# Altium footprint library PcbLib_Left.PcbLib: 25 footprints (part 1 of 2)
Each footprint in its own frame and in the unit in brackets; x right, y up, seen from the top. Pads: shape width x height; smd on the part's side, far side on the other; paste and mask are expansions set on the pad; w line width, h text height; cw(c..) or ccw(c..) is an arc to the next point about the centre after c.
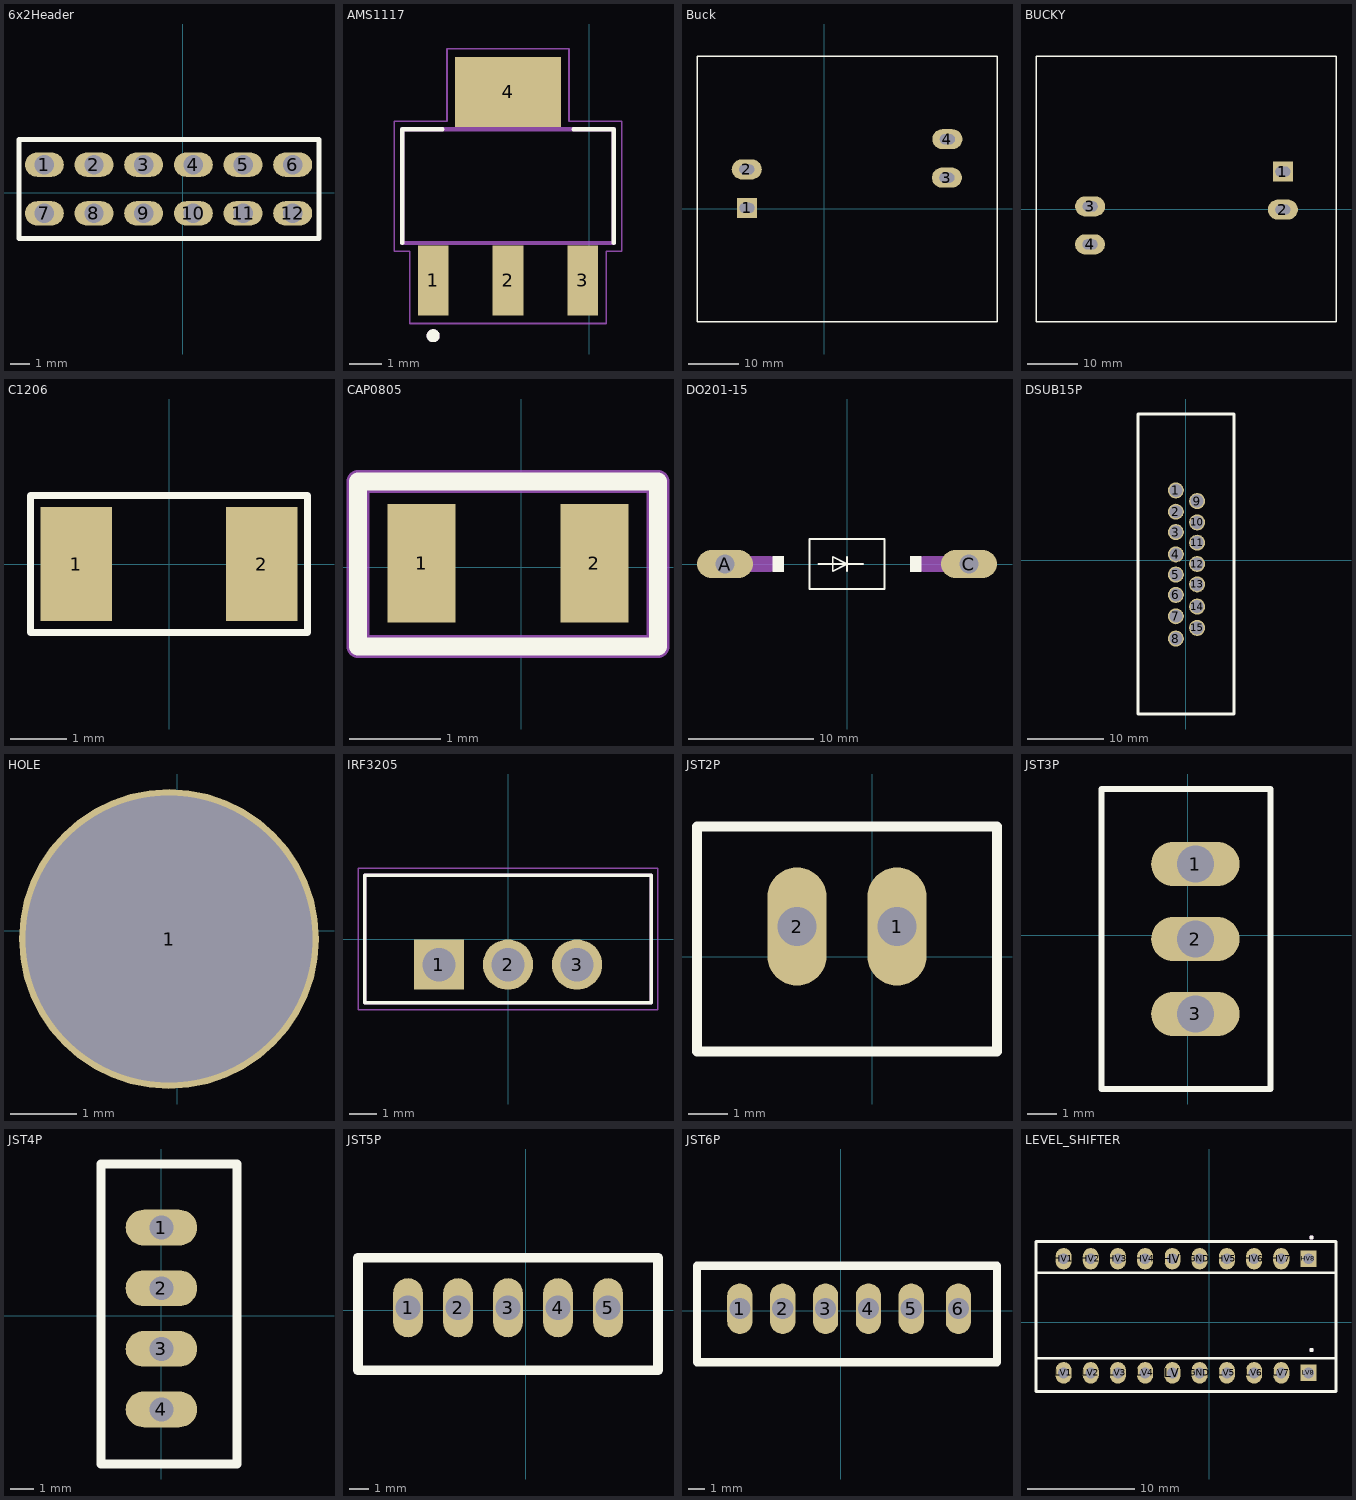
[diagram p0: the footprints below, top view; thin cyan lines are the x and y axes]

## 6x2Header [mm]
pads (12):
  oval 2x1.25 hole 1: 1(-7.1,1.45) 2(-4.55,1.45) 3(-2,1.45) 4(0.55,1.45) 5(3.1,1.45) 6(5.65,1.45) 7(-7.1,-1.05) 8(-4.55,-1.05) 9(-2,-1.05) 10(0.55,-1.05) 11(3.1,-1.05) 12(5.65,-1.05)
Top Overlay:
  lines w0.254: -8.4,-2.35 7,-2.35 7,2.75 -1.65,2.75 -8.4,2.75 -8.4,-2.35
3D body "User Library-Header 3X2_254MM.STEP": height 8.21, standoff -3.49, extent -8.369,-2.33 -0.731,2.75
3D body "User Library-Header 3X2_254MM.STEP": height 8.21, standoff -3.49, extent -0.75,-2.34 6.889,2.74

## AMS1117 [mm]
pads (4):
  rect 0.95x2.15 smd: 1(-4.805,2.8) 2(-2.505,2.8) 3(-0.205,2.8)
  rect 3.25x2.15 smd: 4(-2.505,8.6)
Top Overlay:
  circle w0.2: c-4.805,1.1 r0.1
  lines w0.127: -5.755,3.95 -5.755,7.45 -4.515,7.45 ; -0.495,7.45 0.745,7.45 0.745,3.95
Mechanical 13:
  circle w0.2: c-4.805,1.1 r0.1
  lines w0.127: -5.755,3.95 0.745,3.95 0.745,7.45 -5.755,7.45 -5.755,3.95
Mechanical 15:
  lines w0.05: -6.005,3.7 -6.005,7.7 -4.38,7.7 -4.38,9.925 -0.63,9.925 -0.63,7.7 0.995,7.7 0.995,3.7 0.52,3.7 0.52,1.475 -5.53,1.475 -5.53,3.7 -6.005,3.7
3D body "3v3ldo.STEP": height 1.8, standoff 0, extent -5.755,2.201 0.745,9.199

## Buck [mm]
pads (4):
  rect 4x4 hole 3 slot 2 at 90 deg: 1(-15.42,0.18)
  oval 6x4 hole 3 slot 2 at 90 deg: 2(-15.47,7.89) 3(24.53,6.24) 4(24.62,13.92)
Top Overlay:
  lines w0.254: -25.411,-22.568 34.533,-22.568 34.533,-9.296 34.533,17.247 34.533,30.518 -25.411,30.518 -25.411,-22.568
Mechanical 1:
  text ".Designator" at 28.27,-9.351 h5
3D body "DC-DC Step Down Buck Converter CC-CV 300W 20A.step": height 26.51, standoff -2.94, extent -25.38,-22.6 34.62,30.4

## BUCKY [mm]
pads (4):
  rect 4x4 hole 3 slot 2 at 90 deg: 1(-38.59,7.506)
  oval 6x4 hole 3 slot 2 at 90 deg: 2(-38.59,-0.089) 3(-77.095,0.546) 4(-77.12,-7.049)
Top Overlay:
  lines w0.254: -87.913,-22.517 -27.969,-22.517 -27.969,30.569 -87.913,30.569 -87.913,17.297 -87.913,-9.246 -87.913,-22.517
Mechanical 1:
  text ".Designator" at -81.65,17.352 h5
3D body "DC-DC Step Down Buck Converter CC-CV 300W 20A.step": height 26.51, standoff -2.94, extent -87.75,-22.45 -27.75,30.55

## C1206 [mil]
pads (2):
  rect 50x80 smd: 1(-65,0) 2(65,0)
Top Overlay:
  lines w5: -97,-48 97,-48 97,48 -97,48 -97,-48
3D body "step_temp.STEP": height 70.87, standoff 0, extent -62.99,-31.5 62.99,31.5

## CAP0805 [mm]
pads (2):
  rect 0.75x1.3 smd: 1(-1.094,0.044) 2(0.806,0.044)
Top Overlay:
  lines w0.2: -1.794,-0.872 -1.033,-0.872 0.745,-0.872 1.506,-0.872 1.506,0.944 -1.794,0.944 -1.794,-0.872
Mechanical 1:
  lines w0.254: -1.794,-0.872 1.506,-0.872 1.506,0.944 0.756,0.944 -1.794,0.944 -1.794,-0.872
  text ".designator" at -1.541,-0.591 h0.76
3D body "User Library-Chip Capacitor2.step": height 0.81, standoff 0.01, extent -0.944,-0.464 0.656,0.396

## DO201-15 [mil]
pads (2):
  oval 177x88.5 hole 59: A(-385,0) C(385,0)
Top Overlay:
  region: -235,25 -200,25 -200,-25 -235,-25
  region: 200,25 235,25 235,-25 200,-25
  lines w6: -90,0 0,0 ; 0,-23 0,0 ; 0,23 0,0 ; 50,0 0,0 ; 0,0 -45,23 -45,-23 0,0 ; -118.11,-78.74 118.11,-78.74 118.11,78.74 -118.11,78.74 -118.11,-78.74
Mechanical 13:
  lines w50: -300,0 -245,0 ; 245,0 300,0
3D body "step_temp.STEP": height 208.66, standoff -718.43, extent -408.46,-104.33 408.46,104.33

## DSUB15P [mm]
pads (15):
  round 2.1 hole 1.7: 1(-1.27,9.144) 2(-1.27,6.35) 3(-1.27,3.683) 4(-1.27,0.762) 5(-1.27,-1.905) 6(-1.27,-4.572) 7(-1.27,-7.366) 8(-1.27,-10.287) 9(1.524,7.747) 10(1.524,4.953) 11(1.524,2.286) 12(1.524,-0.508) 13(1.524,-3.175) 14(1.524,-6.096) 15(1.524,-8.89)
Top Overlay:
  lines w0.381: -6.223,-20.193 -6.223,19.177 6.35,19.177 6.35,-20.193 -6.223,-20.193
3D body "D-Tupe 15 pin back 2 lines.STEP": height 12.07, standoff -3.28, extent -6.2,-20.133 6.35,19.117

## HOLE [mm]
pads (1):
  round 4.5 hole 4.3 unplated: 1(-0.127,-0.127)

## IRF3205 [mm]
height 19.3
pads (3):
  rect 1.85x1.85 / inner round 1.85 / far side rect 1.85x1.85 hole 1.23: 1(-2.54,-0.94)
  round 1.85 hole 1.23: 2(0,-0.94) 3(2.54,-0.94)
Top Overlay:
  lines w0.127: -5.27,-2.35 5.27,-2.35 5.27,2.35 -5.27,2.35 -5.27,-2.35
Mechanical 13:
  lines w0.127: -5.27,-2.35 -5.27,2.35 5.27,2.35 5.27,-2.35 -5.27,-2.35
Mechanical 15:
  lines w0.05: -5.52,-2.6 5.52,-2.6 5.52,2.6 -5.52,2.6 -5.52,-2.6
3D body "Mosfet IRF3205.step": height 15.21, standoff -13.37, extent -5.15,-3.175 5.15,0.125

## JST2P [mm]
pads (2):
  oval 1.5x3 hole 1: 1(0.635,0.762) 2(-1.905,0.762)
Top Overlay:
  lines w0.25: -4.445,-2.413 -4.445,3.302 3.175,3.302 3.175,-2.413 -4.445,-2.413
3D body "JST 2.54X2P.step": height 7.01, standoff -2.99, extent -4.405,-2.398 3.135,3.302

## JST3P [mm]
pads (3):
  oval 3x1.5 hole 1.25: 1(0.254,2.413) 2(0.254,-0.127) 3(0.254,-2.667)
Top Overlay:
  lines w0.2: -2.921,-5.207 -2.921,4.953 2.794,4.953 2.794,-5.207 -2.921,-5.207
3D body "JST 2.54X3P.step": height 7, standoff -3, extent -2.896,-5.147 2.804,4.933

## JST4P [mm]
pads (4):
  oval 3x1.5 hole 1: 1(0,3.683) 2(0,1.143) 3(0,-1.397) 4(0,-3.937)
Top Overlay:
  lines w0.381: -2.54,-6.223 3.175,-6.223 3.175,6.35 -2.54,6.35 -2.54,-6.223
3D body "JST 2.54X4P.step": height 7, standoff -3, extent -2.55,-6.457 3.15,6.163

## JST5P [mm]
pads (5):
  oval 1.5x3 hole 1.25: 1(-5.969,0.127) 2(-3.429,0.127) 3(-0.889,0.127) 4(1.651,0.127) 5(4.191,0.127)
Top Overlay:
  lines w0.5: -8.509,-3.048 -8.509,2.667 6.731,2.667 6.731,-3.048 -8.509,-3.048
3D body "JST 2.54x5P.step": height 7, standoff -3, extent -8.489,-3.023 6.671,2.677

## JST6P [mm]
pads (6):
  oval 1.5x3 hole 1.25: 1(-5.969,0.127) 2(-3.429,0.127) 3(-0.889,0.127) 4(1.651,0.127) 5(4.191,0.127) 6(6.985,0.127)
Top Overlay:
  lines w0.5: -8.509,-3.048 9.271,-3.048 9.271,2.667 -8.509,2.667 -8.509,-3.048
3D body "JST 2.54x6P.step": height 7, standoff -3, extent -8.489,-3.023 9.211,2.677

## LEVEL_SHIFTER [mm]
pads (20):
  oval 1.5x2 hole 1.02: GND(-0.889,-4.699) GND(-0.889,5.951) HV(-3.429,5.951) HV1(-13.589,5.951) HV2(-11.049,5.951) HV3(-8.509,5.951) HV4(-5.969,5.951) HV5(1.651,5.951) HV6(4.191,5.951) HV7(6.731,5.951) LV(-3.429,-4.699) LV1(-13.589,-4.699) LV2(-11.049,-4.699) LV3(-8.509,-4.699) LV4(-5.969,-4.699) LV5(1.651,-4.699) LV6(4.191,-4.699) LV7(6.731,-4.699)
  rect 1.53x1.53 hole 1.02: HV8(9.271,5.951) LV8(9.271,-4.699)
Top Overlay:
  circle w0.2: c9.561,-2.569 r0.1
  circle w0.2: c9.561,7.931 r0.1
  lines w0.254: -16.159,-3.349 -14.759,-3.349 11.841,-3.349 ; -16.159,4.651 11.841,4.651 ; -16.159,-6.449 -16.159,7.551 11.841,7.551 11.841,0.551 11.841,-6.449 -16.159,-6.449
Mechanical 13:
  circle w0.2: c9.561,-2.569 r0.1
  circle w0.2: c9.561,7.931 r0.1
3D body "1x10female_HDR.STEP": height 7.65, standoff -9.99, extent -14.729,-5.869 10.671,-3.329
3D body "1x10female_HDR.STEP": height 7.65, standoff -9.99, extent -14.729,4.631 10.671,7.171